# EAGLE library part TEST_ROW (library TEST_ROW)
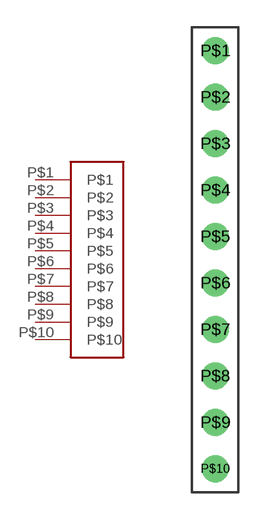
[diagram p0: symbol with the pads of TEST_ROW; footprint TEST_ROW]

Designator prefix -

## TEST_ROW  [TEST_ROW]
P$1  P$1
P$2  P$2
P$3  P$3
P$4  P$4
P$5  P$5
P$6  P$6
P$7  P$7
P$8  P$8
P$9  P$9
P$10  P$10

## Footprint TEST_ROW (pad centres in mm)
drill 0.965: P$1 0,5.08; P$2 0,2.54; P$3 0,0; P$4 0,-2.54; P$5 0,-5.08; P$6 0,-7.62; P$7 0,-10.16; P$8 0,-12.7; P$9 0,-15.24; P$10 0,-17.78